# EAGLE library part 615008160721 (library 615008185221_Eagle_WR-MJ_rev20b)
WR-MJ Modular Jack THT 47,5° Shielded 8P8C MATERIAL PROPERTIES Insulator Material PA9T Insulator Flammability Rating UL94 V-0 Insulator Color Black Contact Material Copper Alloy Contact Plating 6u' on contact area Contact Type Stamped GENERAL INFORMATION Operating Temperature -40 up to +85 °C ELECTRICAL PROPERTIES Working Voltage 125 V (AC) Contact Resistance 35 mΩ RISO 1000 MΩ PACKAGING PROPERTIES Packaging Tray <https://katalog.we-online.com/media/images/v2/o161627v209%20Family_WR-MJTH_615008160721.jpg> Details see: https://katalog.we-online.com/en/em/MJ_THT_47_5-DEGREE_8P8C_SHIELDED Updated by Ella Wu 2019-11-05 2019(C) Wurth Elektronik
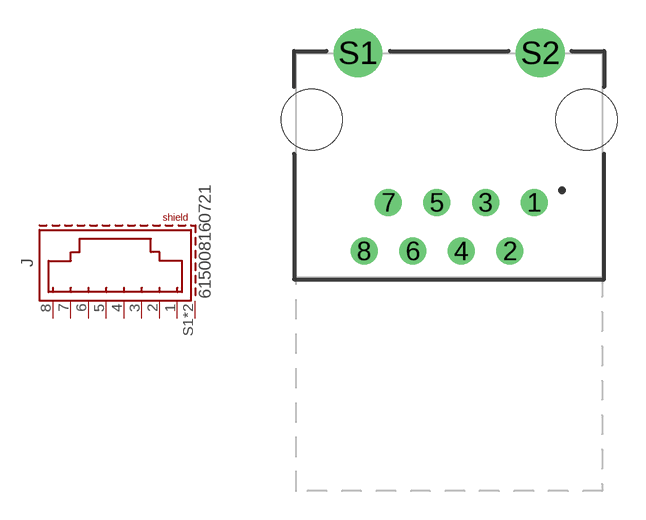
[diagram p15: symbol with the pads of 615008160721; footprint 615008160721]

Designator prefix J

## 615008160721 (DATASHEET-URL: https://www.we-online.com/catalog/datasheet/615008160721.pdf; LED: /; MOUNT: THT; PART-NUMBER: 615008160721; TYPE: 47.5°; VALUE: 615008160721; XPXC: 8P8C)  [615008160721]
1  1  pas
2  2  pas
3  3  pas
4  4  pas
5  5  pas
6  6  pas
7  7  pas
8  8  pas
S1  SHIELD  pas
S2  SHIELD  pas

## Footprint 615008160721 (pad centres in mm)
WR-MJ Modular Jack THT 47,5° Shielded 8P8C
drill 0.9: 1 4.445,-1.95; 2 3.175,-4.49; 3 1.905,-1.95; 4 0.635,-4.49; 5 -0.635,-1.95; 6 -1.905,-4.49; 7 -3.175,-1.95; 8 -4.445,-4.49
drill 1.7: S1 -4.765,5.87; S2 4.765,5.87
hole 3.2 at -7.175,2.39
hole 3.2 at 7.175,2.39